# Altium schematic symbol library LT1017IS8.Schlib: 1 symbol
Pins are listed as number, name and electrical type; pins without a type are passive.

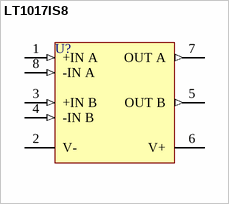
[diagram p0: symbol LT1017IS8]

## LT1017IS8
designator U?
general purpose micropower comparators
pins: 1 +IN A (in), 2 V- (power), 3 +IN B (in), 4 -IN B (in), 5 OUT B (out), 6 V+ (power), 7 OUT A (out), 8 -IN A (in)